# Altium schematic symbol library vga.SchLib: 197 symbols (part 1 of 3)
Pins are listed as number, name and electrical type; pins without a type are passive.

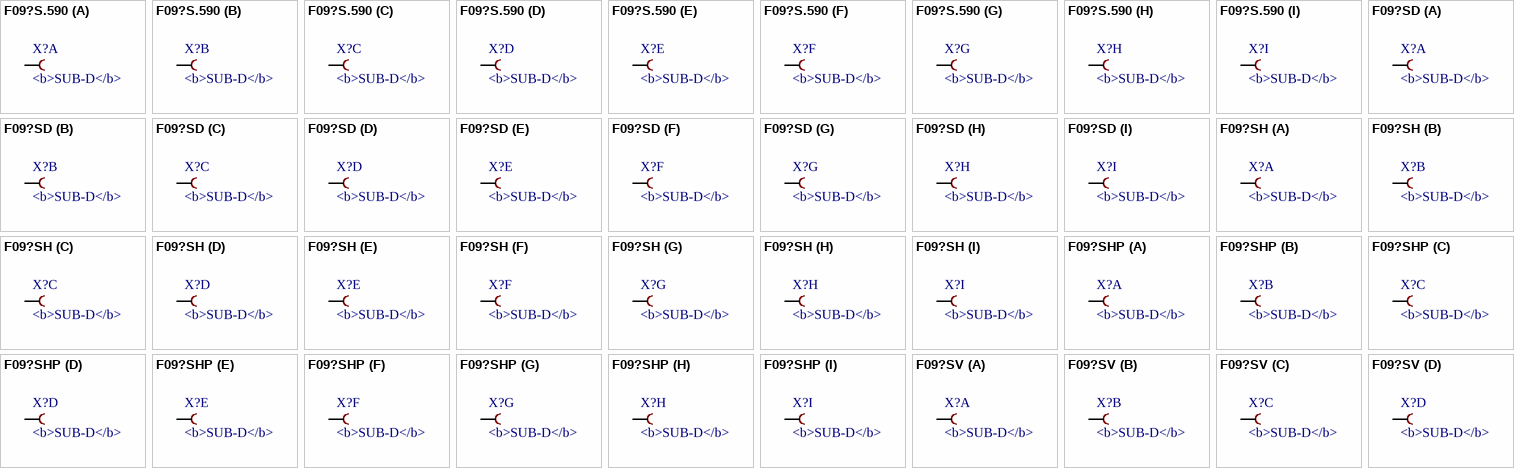
[diagram p0: symbols F09?S.590 to F09?SV]

## F09?S.590
designator X?, comment <b>SUB-D</b>
OC_FARNELL: unknown; OC_NEWARK: unknown
footprint 177-009-FEMALE
part A pins: 1 F
part B pins: 2 F
part C pins: 3 F
part D pins: 4 F
part E pins: 5 F
part F pins: 6 F
part G pins: 7 F
part H pins: 8 F
part I pins: 9 F

## F09?SD
designator X?, comment <b>SUB-D</b>
OC_FARNELL: unknown; OC_NEWARK: unknown
footprint F09D
part A pins: 1 F
part B pins: 2 F
part C pins: 3 F
part D pins: 4 F
part E pins: 5 F
part F pins: 6 F
part G pins: 7 F
part H pins: 8 F
part I pins: 9 F

## F09?SH
designator X?, comment <b>SUB-D</b>
OC_FARNELL: unknown; OC_NEWARK: unknown
footprint F09H
part A pins: 1 F
part B pins: 2 F
part C pins: 3 F
part D pins: 4 F
part E pins: 5 F
part F pins: 6 F
part G pins: 7 F
part H pins: 8 F
part I pins: 9 F

## F09?SHP
designator X?, comment <b>SUB-D</b>
OC_FARNELL: unknown; OC_NEWARK: unknown
footprint F09HP
part A pins: 1 F
part B pins: 2 F
part C pins: 3 F
part D pins: 4 F
part E pins: 5 F
part F pins: 6 F
part G pins: 7 F
part H pins: 8 F
part I pins: 9 F

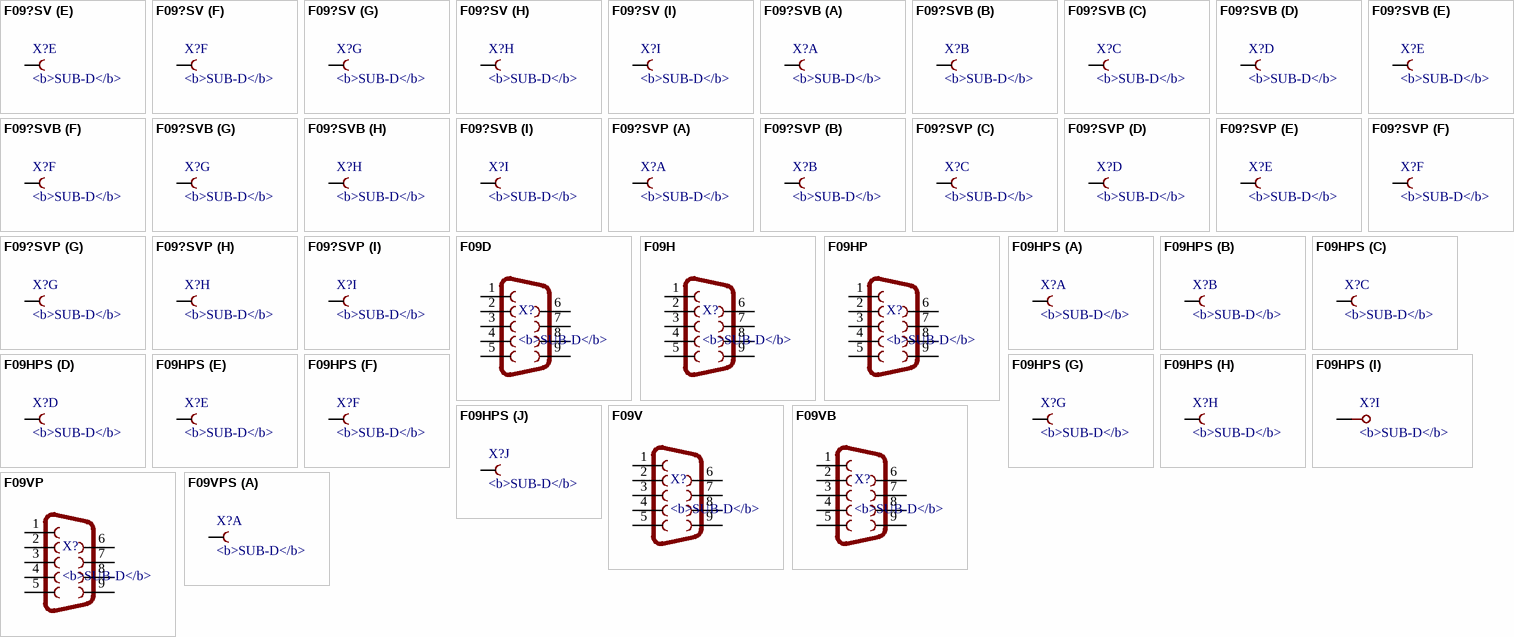
[diagram p1: symbols F09?SV to F09VPS]

## F09?SV
designator X?, comment <b>SUB-D</b>
OC_FARNELL: unknown; OC_NEWARK: unknown
footprint F09V
part A pins: 1 F
part B pins: 2 F
part C pins: 3 F
part D pins: 4 F
part E pins: 5 F
part F pins: 6 F
part G pins: 7 F
part H pins: 8 F
part I pins: 9 F

## F09?SVB
designator X?, comment <b>SUB-D</b>
OC_FARNELL: unknown; OC_NEWARK: unknown
footprint F09VB
part A pins: 1 F
part B pins: 2 F
part C pins: 3 F
part D pins: 4 F
part E pins: 5 F
part F pins: 6 F
part G pins: 7 F
part H pins: 8 F
part I pins: 9 F

## F09?SVP
designator X?, comment <b>SUB-D</b>
OC_FARNELL: unknown; OC_NEWARK: unknown
footprint F09VP
part A pins: 1 F
part B pins: 2 F
part C pins: 3 F
part D pins: 4 F
part E pins: 5 F
part F pins: 6 F
part G pins: 7 F
part H pins: 8 F
part I pins: 9 F

## F09D
designator X?, comment <b>SUB-D</b>
OC_FARNELL: unknown; OC_NEWARK: unknown
footprint F09D
pins: 1, 2, 3, 4, 5, 6, 7, 8, 9

## F09H
designator X?, comment <b>SUB-D</b>
OC_FARNELL: unknown; OC_NEWARK: unknown
footprint F09H
pins: 1, 2, 3, 4, 5, 6, 7, 8, 9

## F09HP
designator X?, comment <b>SUB-D</b>
OC_FARNELL: unknown; OC_NEWARK: unknown
footprint F09HP
pins: 1, 2, 3, 4, 5, 6, 7, 8, 9

## F09HPS
designator X?, comment <b>SUB-D</b>
OC_FARNELL: unknown; OC_NEWARK: unknown
footprint F09HP
part A pins: 2 F
part B pins: 3 F
part C pins: 4 F
part D pins: 5 F
part E pins: 6 F
part F pins: 7 F
part G pins: 8 F
part H pins: 9 F
part I pins: G1, G2
part J pins: 1 F

## F09V
designator X?, comment <b>SUB-D</b>
OC_FARNELL: unknown; OC_NEWARK: unknown
footprint F09V
pins: 1, 2, 3, 4, 5, 6, 7, 8, 9

## F09VB
designator X?, comment <b>SUB-D</b>
OC_FARNELL: unknown; OC_NEWARK: unknown
footprint F09VB
pins: 1, 2, 3, 4, 5, 6, 7, 8, 9

## F09VP
designator X?, comment <b>SUB-D</b>
OC_FARNELL: unknown; OC_NEWARK: unknown
footprint F09VP
pins: 1, 2, 3, 4, 5, 6, 7, 8, 9

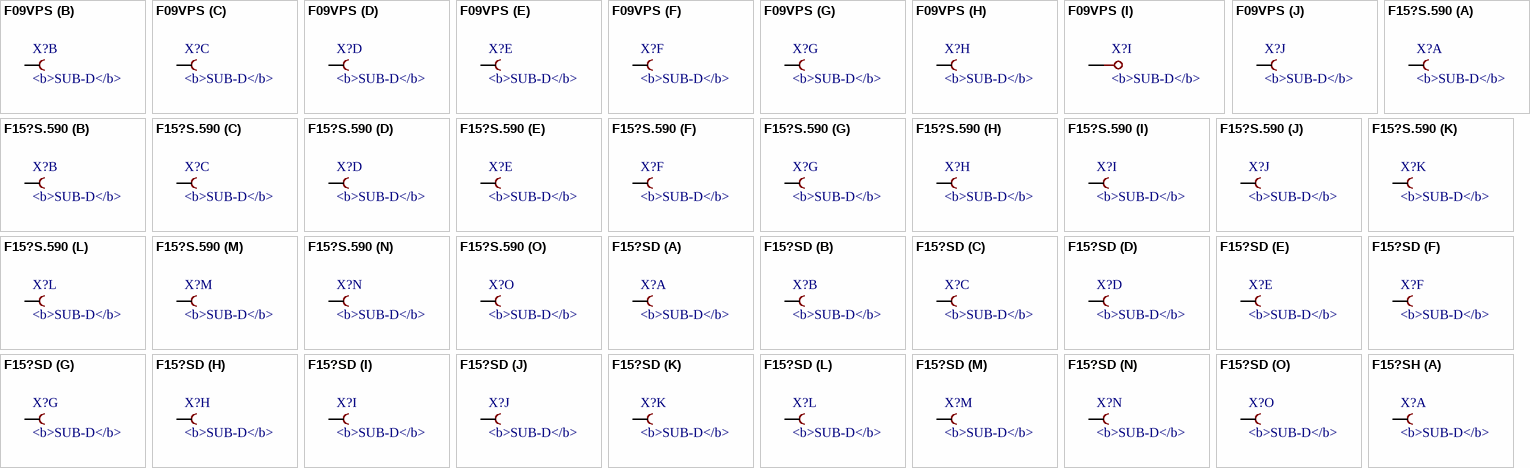
[diagram p2: symbols F09VPS to F15?SH]

## F09VPS
designator X?, comment <b>SUB-D</b>
OC_FARNELL: unknown; OC_NEWARK: unknown
footprint F09VP
part A pins: 2 F
part B pins: 3 F
part C pins: 4 F
part D pins: 5 F
part E pins: 6 F
part F pins: 7 F
part G pins: 8 F
part H pins: 9 F
part I pins: G1, G2
part J pins: 1 F

## F15?S.590
designator X?, comment <b>SUB-D</b>
OC_FARNELL: unknown; OC_NEWARK: unknown
footprint 177-015-212-FEMALE
part A pins: 1 F
part B pins: 2 F
part C pins: 3 F
part D pins: 4 F
part E pins: 5 F
part F pins: 6 F
part G pins: 7 F
part H pins: 8 F
part I pins: 9 F
part J pins: 10 F
part K pins: 11 F
part L pins: 12 F
part M pins: 13 F
part N pins: 14 F
part O pins: 15 F

## F15?SD
designator X?, comment <b>SUB-D</b>
OC_FARNELL: unknown; OC_NEWARK: unknown
footprint F15D
part A pins: 1 F
part B pins: 2 F
part C pins: 3 F
part D pins: 4 F
part E pins: 5 F
part F pins: 6 F
part G pins: 7 F
part H pins: 8 F
part I pins: 9 F
part J pins: 10 F
part K pins: 11 F
part L pins: 12 F
part M pins: 13 F
part N pins: 14 F
part O pins: 15 F

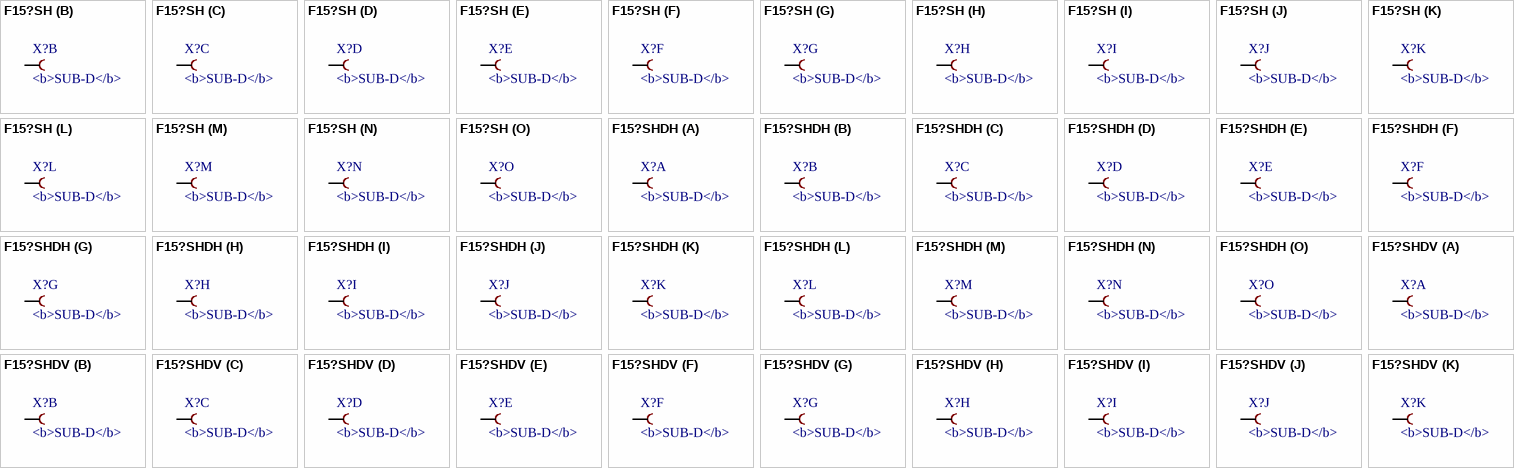
[diagram p3: symbols F15?SH to F15?SHDV]

## F15?SH
designator X?, comment <b>SUB-D</b>
OC_FARNELL: unknown; OC_NEWARK: unknown
footprint F15H
part A pins: 1 F
part B pins: 2 F
part C pins: 3 F
part D pins: 4 F
part E pins: 5 F
part F pins: 6 F
part G pins: 7 F
part H pins: 8 F
part I pins: 9 F
part J pins: 10 F
part K pins: 11 F
part L pins: 12 F
part M pins: 13 F
part N pins: 14 F
part O pins: 15 F

## F15?SHDH
designator X?, comment <b>SUB-D</b>
OC_FARNELL: unknown; OC_NEWARK: unknown
footprint HDF15H
part A pins: 1 F
part B pins: 2 F
part C pins: 3 F
part D pins: 4 F
part E pins: 5 F
part F pins: 6 F
part G pins: 7 F
part H pins: 8 F
part I pins: 9 F
part J pins: 10 F
part K pins: 11 F
part L pins: 12 F
part M pins: 13 F
part N pins: 14 F
part O pins: 15 F

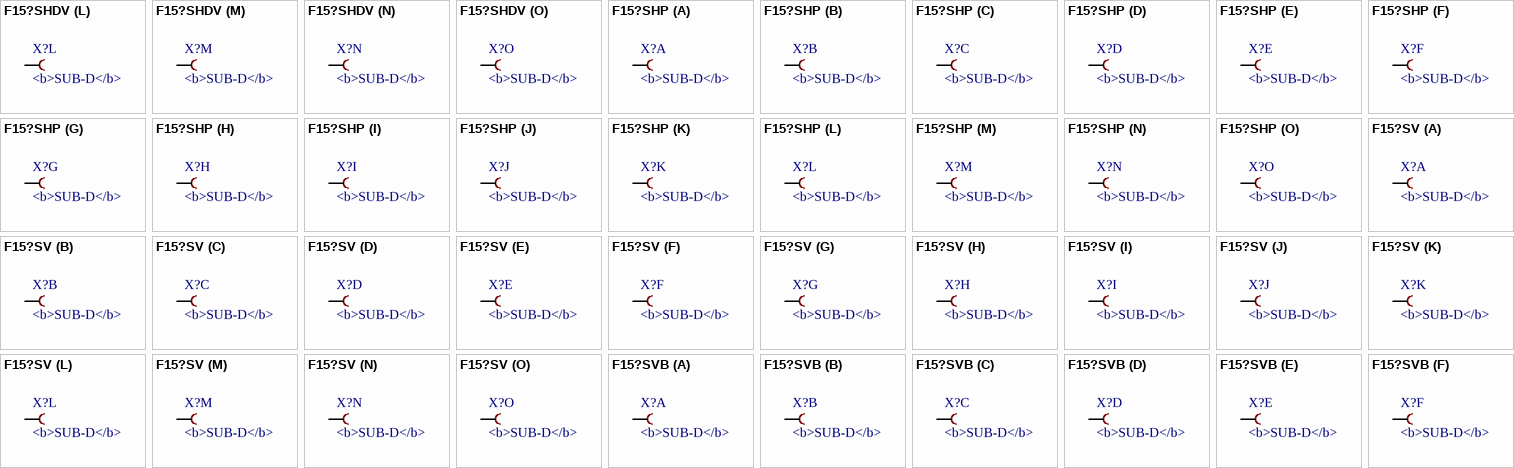
[diagram p4: symbols F15?SHDV to F15?SVB]

## F15?SHDV
designator X?, comment <b>SUB-D</b>
OC_FARNELL: unknown; OC_NEWARK: unknown
footprint HDF15V
part A pins: 1 F
part B pins: 2 F
part C pins: 3 F
part D pins: 4 F
part E pins: 5 F
part F pins: 6 F
part G pins: 7 F
part H pins: 8 F
part I pins: 9 F
part J pins: 10 F
part K pins: 11 F
part L pins: 12 F
part M pins: 13 F
part N pins: 14 F
part O pins: 15 F

## F15?SHP
designator X?, comment <b>SUB-D</b>
OC_FARNELL: unknown; OC_NEWARK: unknown
footprint F15HP
part A pins: 1 F
part B pins: 2 F
part C pins: 3 F
part D pins: 4 F
part E pins: 5 F
part F pins: 6 F
part G pins: 7 F
part H pins: 8 F
part I pins: 9 F
part J pins: 10 F
part K pins: 11 F
part L pins: 12 F
part M pins: 13 F
part N pins: 14 F
part O pins: 15 F

## F15?SV
designator X?, comment <b>SUB-D</b>
OC_FARNELL: unknown; OC_NEWARK: unknown
footprint F15V
part A pins: 1 F
part B pins: 2 F
part C pins: 3 F
part D pins: 4 F
part E pins: 5 F
part F pins: 6 F
part G pins: 7 F
part H pins: 8 F
part I pins: 9 F
part J pins: 10 F
part K pins: 11 F
part L pins: 12 F
part M pins: 13 F
part N pins: 14 F
part O pins: 15 F

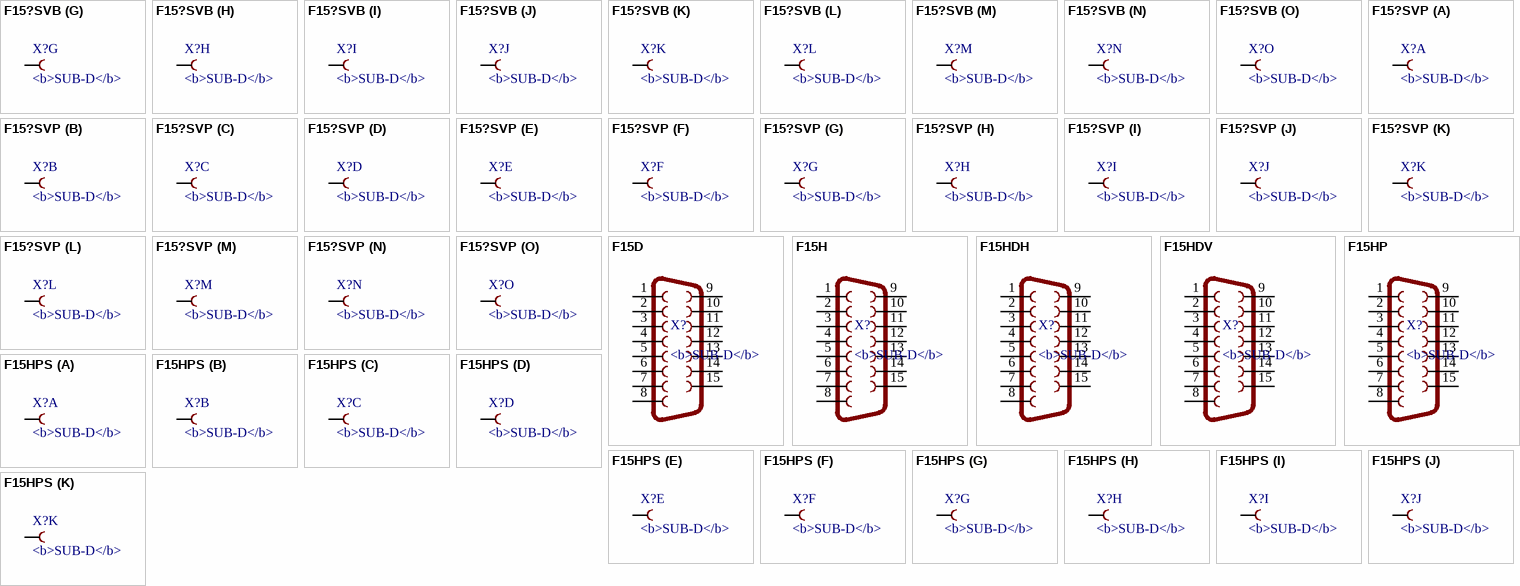
[diagram p5: symbols F15?SVB to F15HPS]

## F15?SVB
designator X?, comment <b>SUB-D</b>
OC_FARNELL: unknown; OC_NEWARK: unknown
footprint F15VB
part A pins: 1 F
part B pins: 2 F
part C pins: 3 F
part D pins: 4 F
part E pins: 5 F
part F pins: 6 F
part G pins: 7 F
part H pins: 8 F
part I pins: 9 F
part J pins: 10 F
part K pins: 11 F
part L pins: 12 F
part M pins: 13 F
part N pins: 14 F
part O pins: 15 F

## F15?SVP
designator X?, comment <b>SUB-D</b>
OC_FARNELL: unknown; OC_NEWARK: unknown
footprint F15VP
part A pins: 1 F
part B pins: 2 F
part C pins: 3 F
part D pins: 4 F
part E pins: 5 F
part F pins: 6 F
part G pins: 7 F
part H pins: 8 F
part I pins: 9 F
part J pins: 10 F
part K pins: 11 F
part L pins: 12 F
part M pins: 13 F
part N pins: 14 F
part O pins: 15 F

## F15D
designator X?, comment <b>SUB-D</b>
OC_FARNELL: unknown; OC_NEWARK: unknown
footprint F15D
pins: 1, 2, 3, 4, 5, 6, 7, 8, 9, 10, 11, 12, 13, 14, 15

## F15H
designator X?, comment <b>SUB-D</b>
OC_FARNELL: unknown; OC_NEWARK: unknown
footprint F15H
pins: 1, 2, 3, 4, 5, 6, 7, 8, 9, 10, 11, 12, 13, 14, 15

## F15HDH
designator X?, comment <b>SUB-D</b>
OC_FARNELL: unknown; OC_NEWARK: unknown
footprint HDF15H
pins: 1, 2, 3, 4, 5, 6, 7, 8, 9, 10, 11, 12, 13, 14, 15

## F15HDV
designator X?, comment <b>SUB-D</b>
OC_FARNELL: unknown; OC_NEWARK: unknown
footprint HDF15V
pins: 1, 2, 3, 4, 5, 6, 7, 8, 9, 10, 11, 12, 13, 14, 15

## F15HP
designator X?, comment <b>SUB-D</b>
OC_FARNELL: unknown; OC_NEWARK: unknown
footprint F15HP
pins: 1, 2, 3, 4, 5, 6, 7, 8, 9, 10, 11, 12, 13, 14, 15

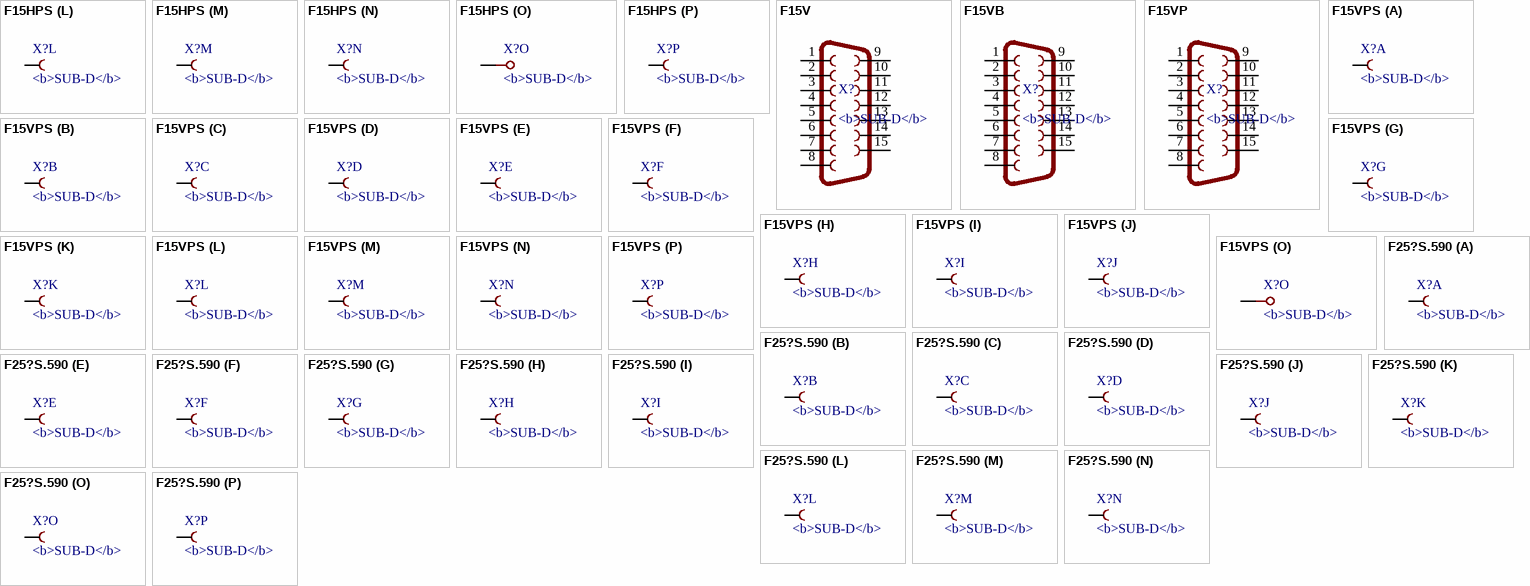
[diagram p6: symbols F15HPS to F25?S.590]

## F15HPS
designator X?, comment <b>SUB-D</b>
OC_FARNELL: unknown; OC_NEWARK: unknown
footprint F15HP
part A pins: 2 F
part B pins: 3 F
part C pins: 4 F
part D pins: 5 F
part E pins: 6 F
part F pins: 7 F
part G pins: 8 F
part H pins: 9 F
part I pins: 10 F
part J pins: 11 F
part K pins: 12 F
part L pins: 13 F
part M pins: 14 F
part N pins: 15 F
part O pins: G1, G2
part P pins: 1 F

## F15V
designator X?, comment <b>SUB-D</b>
OC_FARNELL: unknown; OC_NEWARK: unknown
footprint F15V
pins: 1, 2, 3, 4, 5, 6, 7, 8, 9, 10, 11, 12, 13, 14, 15

## F15VB
designator X?, comment <b>SUB-D</b>
OC_FARNELL: unknown; OC_NEWARK: unknown
footprint F15VB
pins: 1, 2, 3, 4, 5, 6, 7, 8, 9, 10, 11, 12, 13, 14, 15

## F15VP
designator X?, comment <b>SUB-D</b>
OC_FARNELL: unknown; OC_NEWARK: unknown
footprint F15VP
pins: 1, 2, 3, 4, 5, 6, 7, 8, 9, 10, 11, 12, 13, 14, 15

## F15VPS
designator X?, comment <b>SUB-D</b>
OC_FARNELL: unknown; OC_NEWARK: unknown
footprint F15VP
part A pins: 2 F
part B pins: 3 F
part C pins: 4 F
part D pins: 5 F
part E pins: 6 F
part F pins: 7 F
part G pins: 8 F
part H pins: 9 F
part I pins: 10 F
part J pins: 11 F
part K pins: 12 F
part L pins: 13 F
part M pins: 14 F
part N pins: 15 F
part O pins: G1, G2
part P pins: 1 F

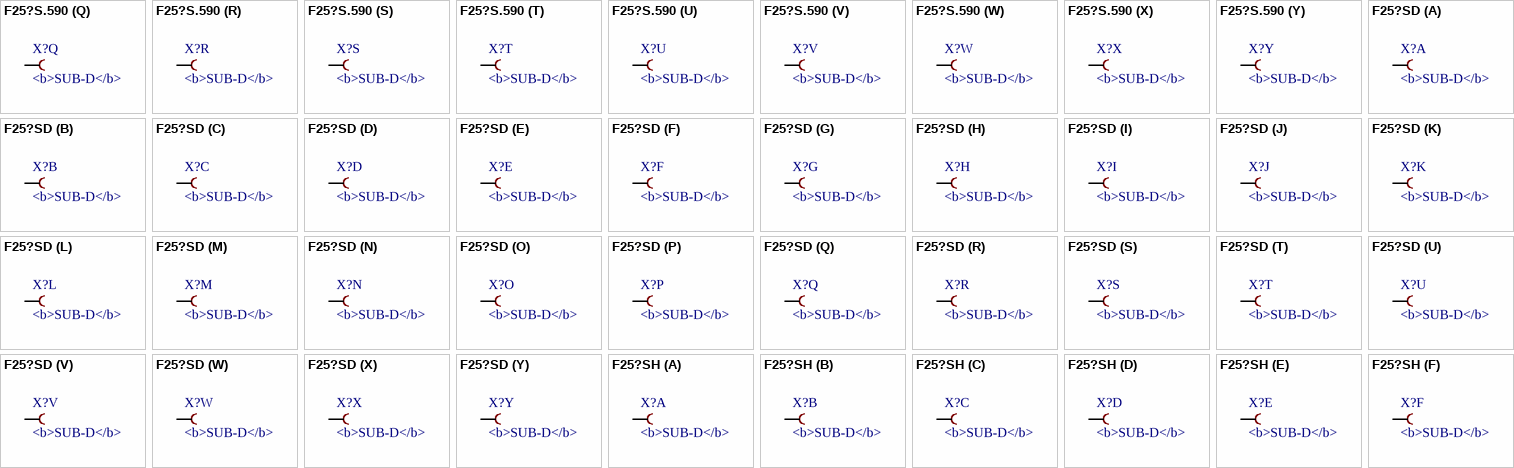
[diagram p7: symbols F25?S.590 to F25?SH]

## F25?S.590
designator X?, comment <b>SUB-D</b>
OC_FARNELL: unknown; OC_NEWARK: unknown
footprint 177-025-FEMALE
part A pins: 1 F
part B pins: 2 F
part C pins: 3 F
part D pins: 4 F
part E pins: 5 F
part F pins: 6 F
part G pins: 7 F
part H pins: 8 F
part I pins: 9 F
part J pins: 10 F
part K pins: 11 F
part L pins: 12 F
part M pins: 13 F
part N pins: 14 F
part O pins: 15 F
part P pins: 16 F
part Q pins: 17 F
part R pins: 18 F
part S pins: 19 F
part T pins: 20 F
part U pins: 21 F
part V pins: 22 F
part W pins: 23 F
part X pins: 24 F
part Y pins: 25 F

## F25?SD
designator X?, comment <b>SUB-D</b>
OC_FARNELL: unknown; OC_NEWARK: unknown
footprint F25D
part A pins: 1 F
part B pins: 2 F
part C pins: 3 F
part D pins: 4 F
part E pins: 5 F
part F pins: 6 F
part G pins: 7 F
part H pins: 8 F
part I pins: 9 F
part J pins: 10 F
part K pins: 11 F
part L pins: 12 F
part M pins: 13 F
part N pins: 14 F
part O pins: 15 F
part P pins: 16 F
part Q pins: 17 F
part R pins: 18 F
part S pins: 19 F
part T pins: 20 F
part U pins: 21 F
part V pins: 22 F
part W pins: 23 F
part X pins: 24 F
part Y pins: 25 F

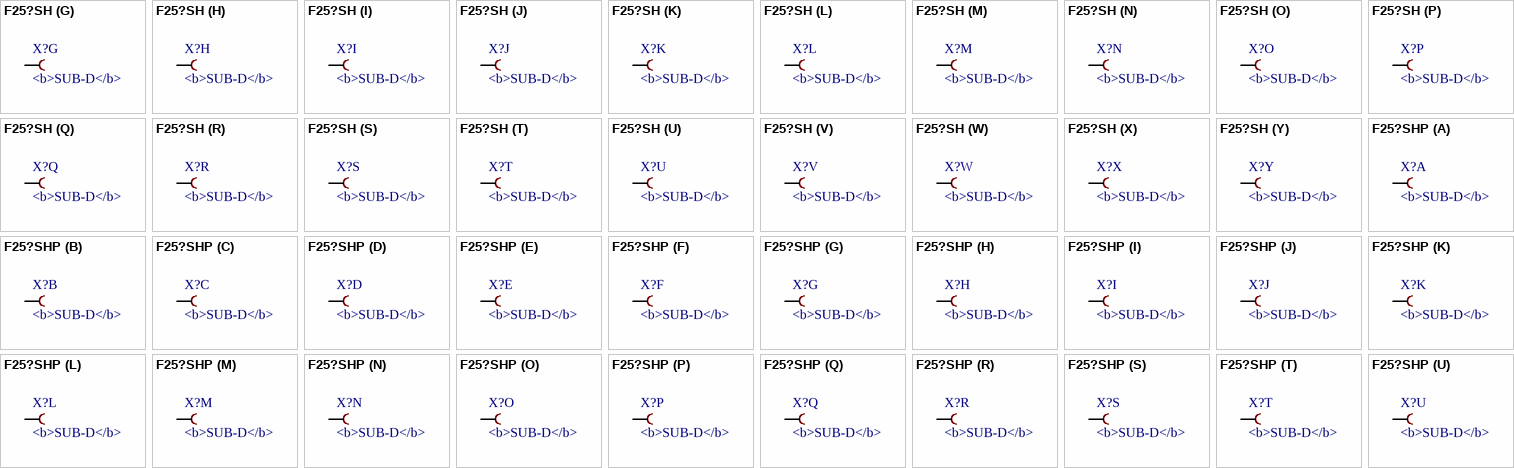
[diagram p8: symbols F25?SH to F25?SHP]

## F25?SH
designator X?, comment <b>SUB-D</b>
OC_FARNELL: unknown; OC_NEWARK: unknown
footprint F25H
part A pins: 1 F
part B pins: 2 F
part C pins: 3 F
part D pins: 4 F
part E pins: 5 F
part F pins: 6 F
part G pins: 7 F
part H pins: 8 F
part I pins: 9 F
part J pins: 10 F
part K pins: 11 F
part L pins: 12 F
part M pins: 13 F
part N pins: 14 F
part O pins: 15 F
part P pins: 16 F
part Q pins: 17 F
part R pins: 18 F
part S pins: 19 F
part T pins: 20 F
part U pins: 21 F
part V pins: 22 F
part W pins: 23 F
part X pins: 24 F
part Y pins: 25 F

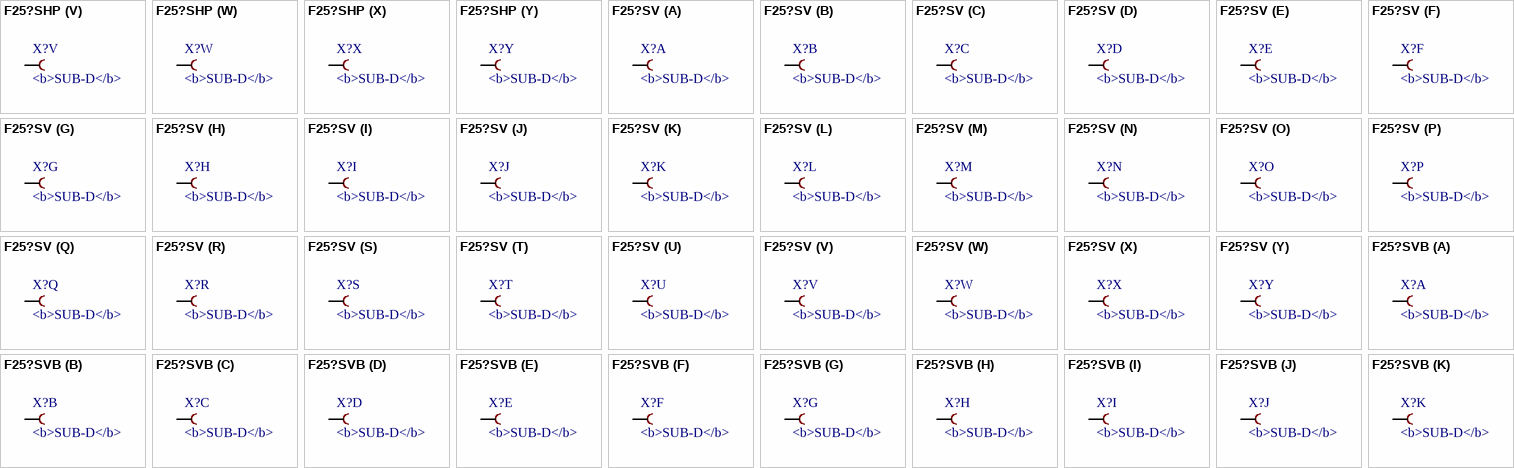
[diagram p9: symbols F25?SHP to F25?SVB]

## F25?SHP
designator X?, comment <b>SUB-D</b>
OC_FARNELL: unknown; OC_NEWARK: unknown
footprint F25HP
part A pins: 1 F
part B pins: 2 F
part C pins: 3 F
part D pins: 4 F
part E pins: 5 F
part F pins: 6 F
part G pins: 7 F
part H pins: 8 F
part I pins: 9 F
part J pins: 10 F
part K pins: 11 F
part L pins: 12 F
part M pins: 13 F
part N pins: 14 F
part O pins: 15 F
part P pins: 16 F
part Q pins: 17 F
part R pins: 18 F
part S pins: 19 F
part T pins: 20 F
part U pins: 21 F
part V pins: 22 F
part W pins: 23 F
part X pins: 24 F
part Y pins: 25 F

## F25?SV
designator X?, comment <b>SUB-D</b>
OC_FARNELL: unknown; OC_NEWARK: unknown
footprint F25V
part A pins: 1 F
part B pins: 2 F
part C pins: 3 F
part D pins: 4 F
part E pins: 5 F
part F pins: 6 F
part G pins: 7 F
part H pins: 8 F
part I pins: 9 F
part J pins: 10 F
part K pins: 11 F
part L pins: 12 F
part M pins: 13 F
part N pins: 14 F
part O pins: 15 F
part P pins: 16 F
part Q pins: 17 F
part R pins: 18 F
part S pins: 19 F
part T pins: 20 F
part U pins: 21 F
part V pins: 22 F
part W pins: 23 F
part X pins: 24 F
part Y pins: 25 F

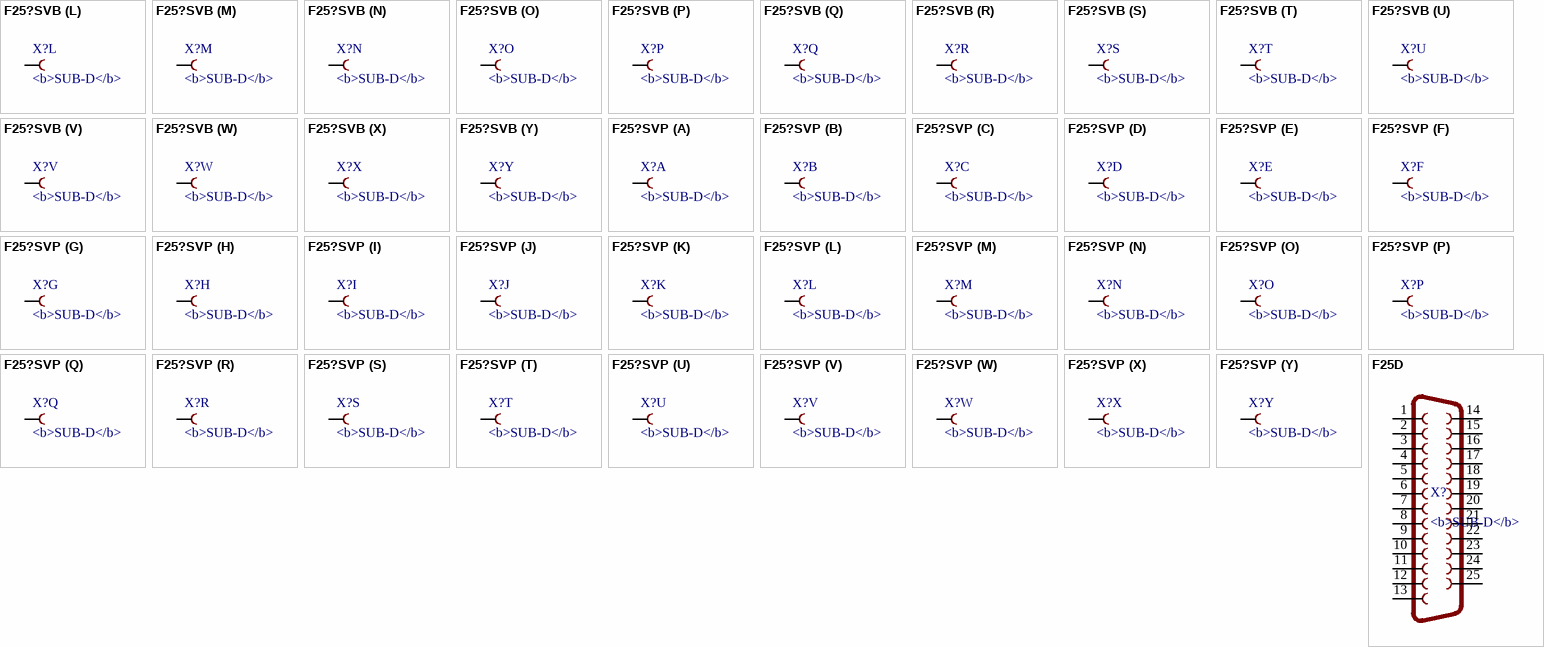
[diagram p10: symbols F25?SVB to F25D]

## F25?SVB
designator X?, comment <b>SUB-D</b>
OC_FARNELL: unknown; OC_NEWARK: unknown
footprint F25VB
part A pins: 1 F
part B pins: 2 F
part C pins: 3 F
part D pins: 4 F
part E pins: 5 F
part F pins: 6 F
part G pins: 7 F
part H pins: 8 F
part I pins: 9 F
part J pins: 10 F
part K pins: 11 F
part L pins: 12 F
part M pins: 13 F
part N pins: 14 F
part O pins: 15 F
part P pins: 16 F
part Q pins: 17 F
part R pins: 18 F
part S pins: 19 F
part T pins: 20 F
part U pins: 21 F
part V pins: 22 F
part W pins: 23 F
part X pins: 24 F
part Y pins: 25 F

## F25?SVP
designator X?, comment <b>SUB-D</b>
OC_FARNELL: unknown; OC_NEWARK: unknown
footprint F25VP
part A pins: 1 F
part B pins: 2 F
part C pins: 3 F
part D pins: 4 F
part E pins: 5 F
part F pins: 6 F
part G pins: 7 F
part H pins: 8 F
part I pins: 9 F
part J pins: 10 F
part K pins: 11 F
part L pins: 12 F
part M pins: 13 F
part N pins: 14 F
part O pins: 15 F
part P pins: 16 F
part Q pins: 17 F
part R pins: 18 F
part S pins: 19 F
part T pins: 20 F
part U pins: 21 F
part V pins: 22 F
part W pins: 23 F
part X pins: 24 F
part Y pins: 25 F

## F25D
designator X?, comment <b>SUB-D</b>
OC_FARNELL: unknown; OC_NEWARK: unknown
footprint F25D
pins: 1, 2, 3, 4, 5, 6, 7, 8, 9, 10, 11, 12, 13, 14, 15, 16, 17, 18, 19, 20, 21, 22, 23, 24, 25

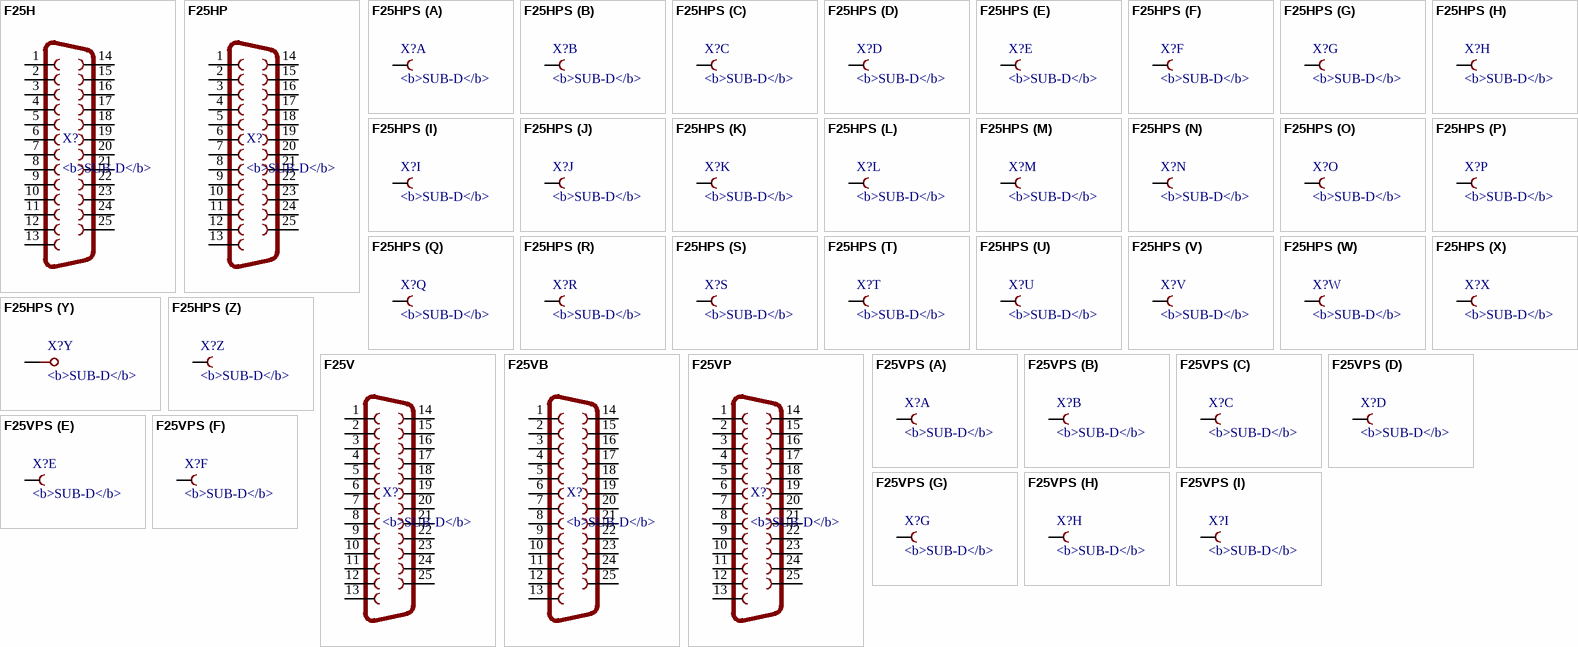
[diagram p11: symbols F25H to F25VPS]

## F25H
designator X?, comment <b>SUB-D</b>
OC_FARNELL: unknown; OC_NEWARK: unknown
footprint F25H
pins: 1, 2, 3, 4, 5, 6, 7, 8, 9, 10, 11, 12, 13, 14, 15, 16, 17, 18, 19, 20, 21, 22, 23, 24, 25

## F25HP
designator X?, comment <b>SUB-D</b>
OC_FARNELL: unknown; OC_NEWARK: unknown
footprint F25HP
pins: 1, 2, 3, 4, 5, 6, 7, 8, 9, 10, 11, 12, 13, 14, 15, 16, 17, 18, 19, 20, 21, 22, 23, 24, 25

## F25HPS
designator X?, comment <b>SUB-D</b>
OC_FARNELL: unknown; OC_NEWARK: unknown
footprint F25HP
part A pins: 2 F
part B pins: 3 F
part C pins: 4 F
part D pins: 5 F
part E pins: 6 F
part F pins: 7 F
part G pins: 8 F
part H pins: 9 F
part I pins: 10 F
part J pins: 11 F
part K pins: 12 F
part L pins: 13 F
part M pins: 14 F
part N pins: 15 F
part O pins: 16 F
part P pins: 17 F
part Q pins: 18 F
part R pins: 19 F
part S pins: 20 F
part T pins: 21 F
part U pins: 22 F
part V pins: 23 F
part W pins: 24 F
part X pins: 25 F
part Y pins: G1, G2
part Z pins: 1 F

## F25V
designator X?, comment <b>SUB-D</b>
OC_FARNELL: unknown; OC_NEWARK: unknown
footprint F25V
pins: 1, 2, 3, 4, 5, 6, 7, 8, 9, 10, 11, 12, 13, 14, 15, 16, 17, 18, 19, 20, 21, 22, 23, 24, 25

## F25VB
designator X?, comment <b>SUB-D</b>
OC_FARNELL: unknown; OC_NEWARK: unknown
footprint F25VB
pins: 1, 2, 3, 4, 5, 6, 7, 8, 9, 10, 11, 12, 13, 14, 15, 16, 17, 18, 19, 20, 21, 22, 23, 24, 25

## F25VP
designator X?, comment <b>SUB-D</b>
OC_FARNELL: unknown; OC_NEWARK: unknown
footprint F25VP
pins: 1, 2, 3, 4, 5, 6, 7, 8, 9, 10, 11, 12, 13, 14, 15, 16, 17, 18, 19, 20, 21, 22, 23, 24, 25

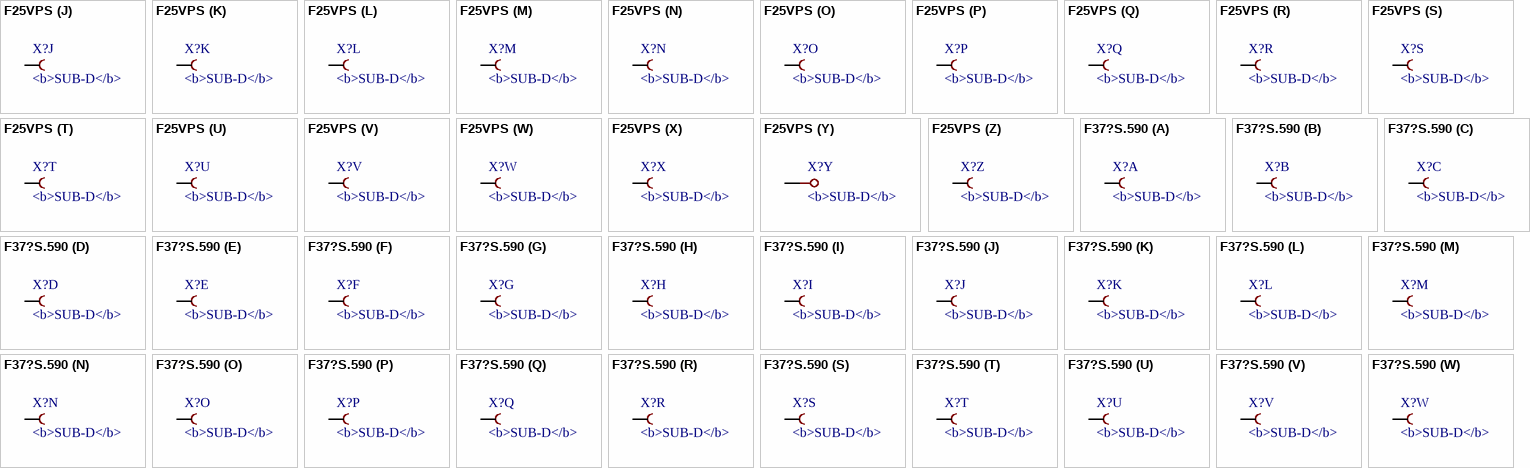
[diagram p12: symbols F25VPS to F37?S.590]

## F25VPS
designator X?, comment <b>SUB-D</b>
OC_FARNELL: unknown; OC_NEWARK: unknown
footprint F25VP
part A pins: 2 F
part B pins: 3 F
part C pins: 4 F
part D pins: 5 F
part E pins: 6 F
part F pins: 7 F
part G pins: 8 F
part H pins: 9 F
part I pins: 10 F
part J pins: 11 F
part K pins: 12 F
part L pins: 13 F
part M pins: 14 F
part N pins: 15 F
part O pins: 16 F
part P pins: 17 F
part Q pins: 18 F
part R pins: 19 F
part S pins: 20 F
part T pins: 21 F
part U pins: 22 F
part V pins: 23 F
part W pins: 24 F
part X pins: 25 F
part Y pins: G1, G2
part Z pins: 1 F

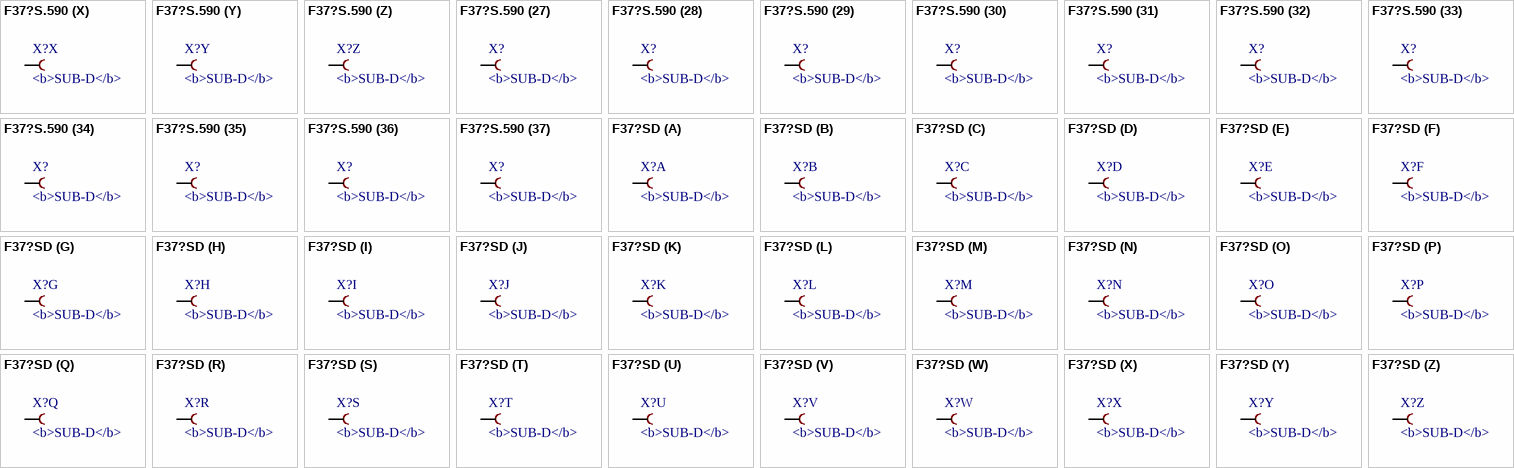
[diagram p13: symbols F37?S.590 to F37?SD]

## F37?S.590
designator X?, comment <b>SUB-D</b>
OC_FARNELL: unknown; OC_NEWARK: unknown
footprint 177-037-FEMALE
part A pins: 1 F
part B pins: 2 F
part C pins: 3 F
part D pins: 4 F
part E pins: 5 F
part F pins: 6 F
part G pins: 7 F
part H pins: 8 F
part I pins: 9 F
part J pins: 10 F
part K pins: 11 F
part L pins: 12 F
part M pins: 13 F
part N pins: 14 F
part O pins: 15 F
part P pins: 16 F
part Q pins: 17 F
part R pins: 18 F
part S pins: 19 F
part T pins: 20 F
part U pins: 21 F
part V pins: 22 F
part W pins: 23 F
part X pins: 24 F
part Y pins: 25 F
part Z pins: 26 F
part 27 pins: 27 F
part 28 pins: 28 F
part 29 pins: 29 F
part 30 pins: 30 F
part 31 pins: 31 F
part 32 pins: 32 F
part 33 pins: 33 F
part 34 pins: 34 F
part 35 pins: 35 F
part 36 pins: 36 F
part 37 pins: 37 F

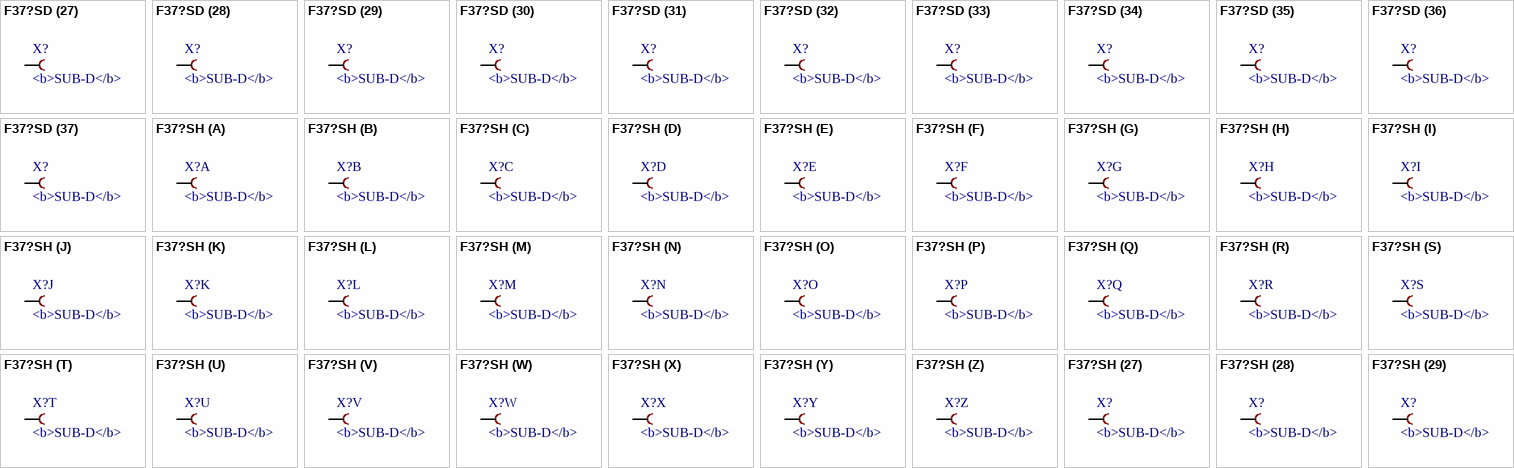
[diagram p14: symbols F37?SD to F37?SH]

## F37?SD
designator X?, comment <b>SUB-D</b>
OC_FARNELL: unknown; OC_NEWARK: unknown
footprint F37D
part A pins: 1 F
part B pins: 2 F
part C pins: 3 F
part D pins: 4 F
part E pins: 5 F
part F pins: 6 F
part G pins: 7 F
part H pins: 8 F
part I pins: 9 F
part J pins: 10 F
part K pins: 11 F
part L pins: 12 F
part M pins: 13 F
part N pins: 14 F
part O pins: 15 F
part P pins: 16 F
part Q pins: 17 F
part R pins: 18 F
part S pins: 19 F
part T pins: 20 F
part U pins: 21 F
part V pins: 22 F
part W pins: 23 F
part X pins: 24 F
part Y pins: 25 F
part Z pins: 26 F
part 27 pins: 27 F
part 28 pins: 28 F
part 29 pins: 29 F
part 30 pins: 30 F
part 31 pins: 31 F
part 32 pins: 32 F
part 33 pins: 33 F
part 34 pins: 34 F
part 35 pins: 35 F
part 36 pins: 36 F
part 37 pins: 37 F

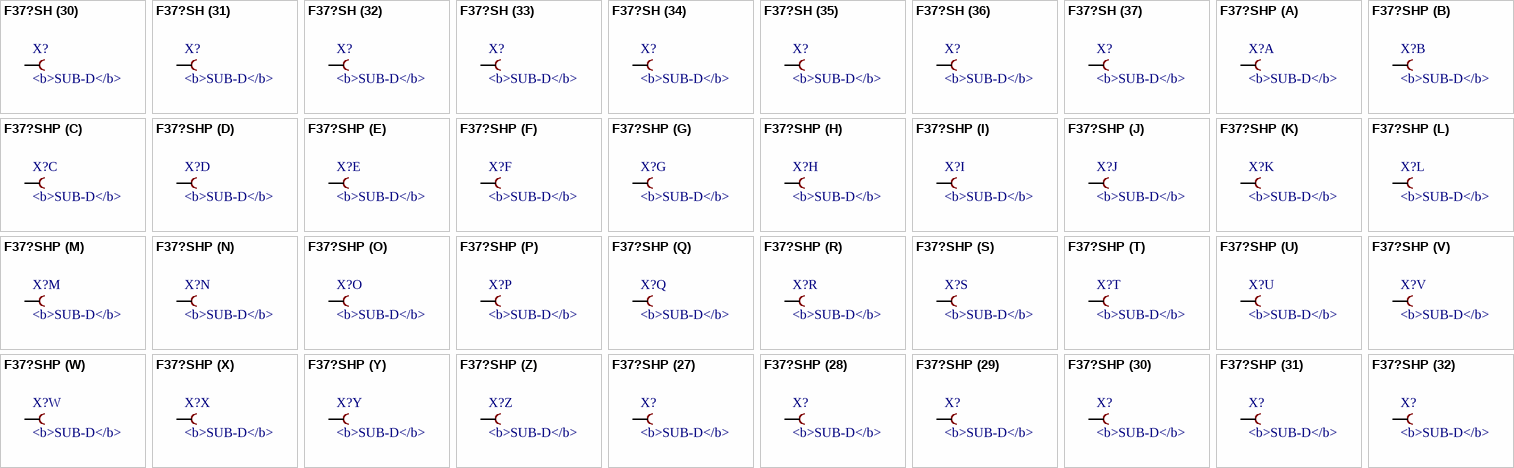
[diagram p15: symbols F37?SH to F37?SHP]

## F37?SH
designator X?, comment <b>SUB-D</b>
OC_FARNELL: unknown; OC_NEWARK: unknown
footprint F37H
part A pins: 1 F
part B pins: 2 F
part C pins: 3 F
part D pins: 4 F
part E pins: 5 F
part F pins: 6 F
part G pins: 7 F
part H pins: 8 F
part I pins: 9 F
part J pins: 10 F
part K pins: 11 F
part L pins: 12 F
part M pins: 13 F
part N pins: 14 F
part O pins: 15 F
part P pins: 16 F
part Q pins: 17 F
part R pins: 18 F
part S pins: 19 F
part T pins: 20 F
part U pins: 21 F
part V pins: 22 F
part W pins: 23 F
part X pins: 24 F
part Y pins: 25 F
part Z pins: 26 F
part 27 pins: 27 F
part 28 pins: 28 F
part 29 pins: 29 F
part 30 pins: 30 F
part 31 pins: 31 F
part 32 pins: 32 F
part 33 pins: 33 F
part 34 pins: 34 F
part 35 pins: 35 F
part 36 pins: 36 F
part 37 pins: 37 F

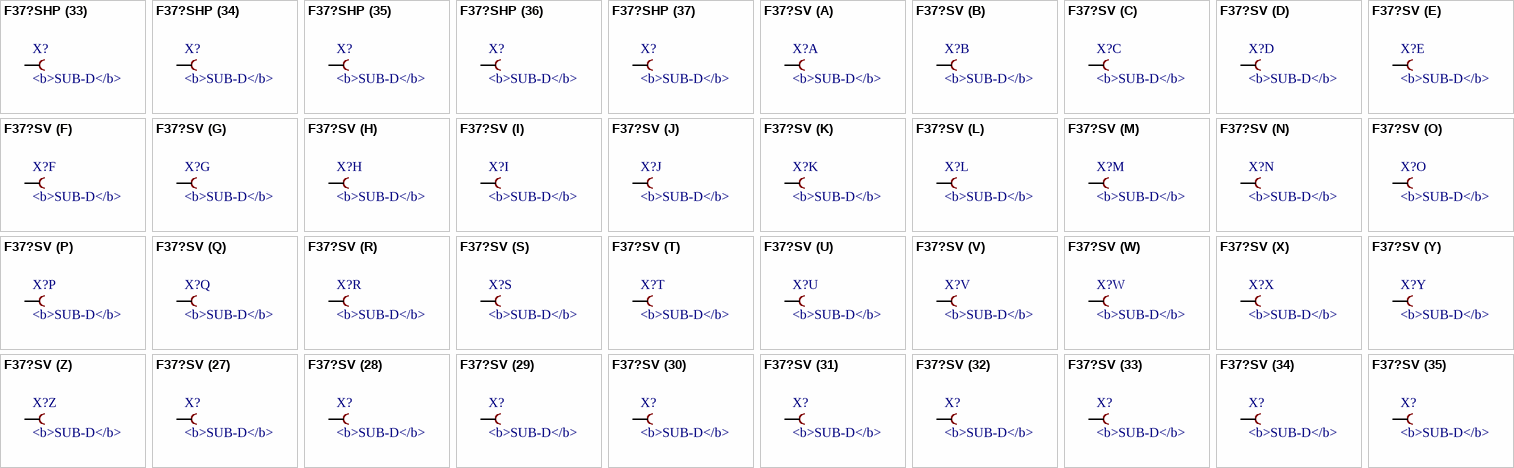
[diagram p16: symbols F37?SHP to F37?SV]

## F37?SHP
designator X?, comment <b>SUB-D</b>
OC_FARNELL: unknown; OC_NEWARK: unknown
footprint F37HP
part A pins: 1 F
part B pins: 2 F
part C pins: 3 F
part D pins: 4 F
part E pins: 5 F
part F pins: 6 F
part G pins: 7 F
part H pins: 8 F
part I pins: 9 F
part J pins: 10 F
part K pins: 11 F
part L pins: 12 F
part M pins: 13 F
part N pins: 14 F
part O pins: 15 F
part P pins: 16 F
part Q pins: 17 F
part R pins: 18 F
part S pins: 19 F
part T pins: 20 F
part U pins: 21 F
part V pins: 22 F
part W pins: 23 F
part X pins: 24 F
part Y pins: 25 F
part Z pins: 26 F
part 27 pins: 27 F
part 28 pins: 28 F
part 29 pins: 29 F
part 30 pins: 30 F
part 31 pins: 31 F
part 32 pins: 32 F
part 33 pins: 33 F
part 34 pins: 34 F
part 35 pins: 35 F
part 36 pins: 36 F
part 37 pins: 37 F

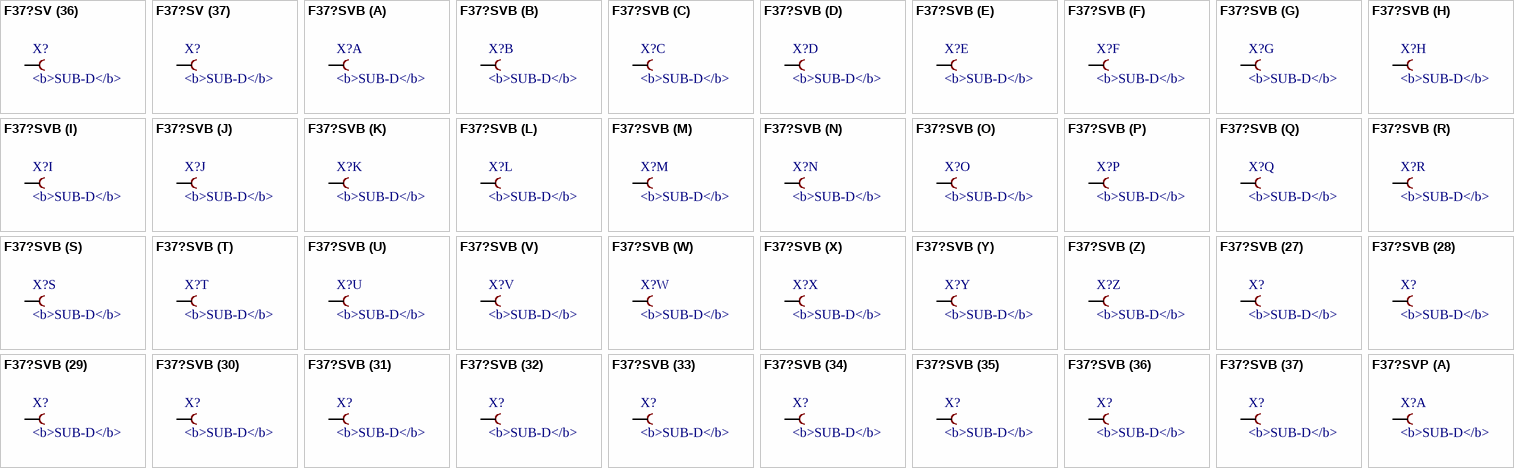
[diagram p17: symbols F37?SV to F37?SVP]

## F37?SV
designator X?, comment <b>SUB-D</b>
OC_FARNELL: unknown; OC_NEWARK: unknown
footprint F37V
part A pins: 1 F
part B pins: 2 F
part C pins: 3 F
part D pins: 4 F
part E pins: 5 F
part F pins: 6 F
part G pins: 7 F
part H pins: 8 F
part I pins: 9 F
part J pins: 10 F
part K pins: 11 F
part L pins: 12 F
part M pins: 13 F
part N pins: 14 F
part O pins: 15 F
part P pins: 16 F
part Q pins: 17 F
part R pins: 18 F
part S pins: 19 F
part T pins: 20 F
part U pins: 21 F
part V pins: 22 F
part W pins: 23 F
part X pins: 24 F
part Y pins: 25 F
part Z pins: 26 F
part 27 pins: 27 F
part 28 pins: 28 F
part 29 pins: 29 F
part 30 pins: 30 F
part 31 pins: 31 F
part 32 pins: 32 F
part 33 pins: 33 F
part 34 pins: 34 F
part 35 pins: 35 F
part 36 pins: 36 F
part 37 pins: 37 F

## F37?SVB
designator X?, comment <b>SUB-D</b>
OC_FARNELL: unknown; OC_NEWARK: unknown
footprint F37VB
part A pins: 1 F
part B pins: 2 F
part C pins: 3 F
part D pins: 4 F
part E pins: 5 F
part F pins: 6 F
part G pins: 7 F
part H pins: 8 F
part I pins: 9 F
part J pins: 10 F
part K pins: 11 F
part L pins: 12 F
part M pins: 13 F
part N pins: 14 F
part O pins: 15 F
part P pins: 16 F
part Q pins: 17 F
part R pins: 18 F
part S pins: 19 F
part T pins: 20 F
part U pins: 21 F
part V pins: 22 F
part W pins: 23 F
part X pins: 24 F
part Y pins: 25 F
part Z pins: 26 F
part 27 pins: 27 F
part 28 pins: 28 F
part 29 pins: 29 F
part 30 pins: 30 F
part 31 pins: 31 F
part 32 pins: 32 F
part 33 pins: 33 F
part 34 pins: 34 F
part 35 pins: 35 F
part 36 pins: 36 F
part 37 pins: 37 F

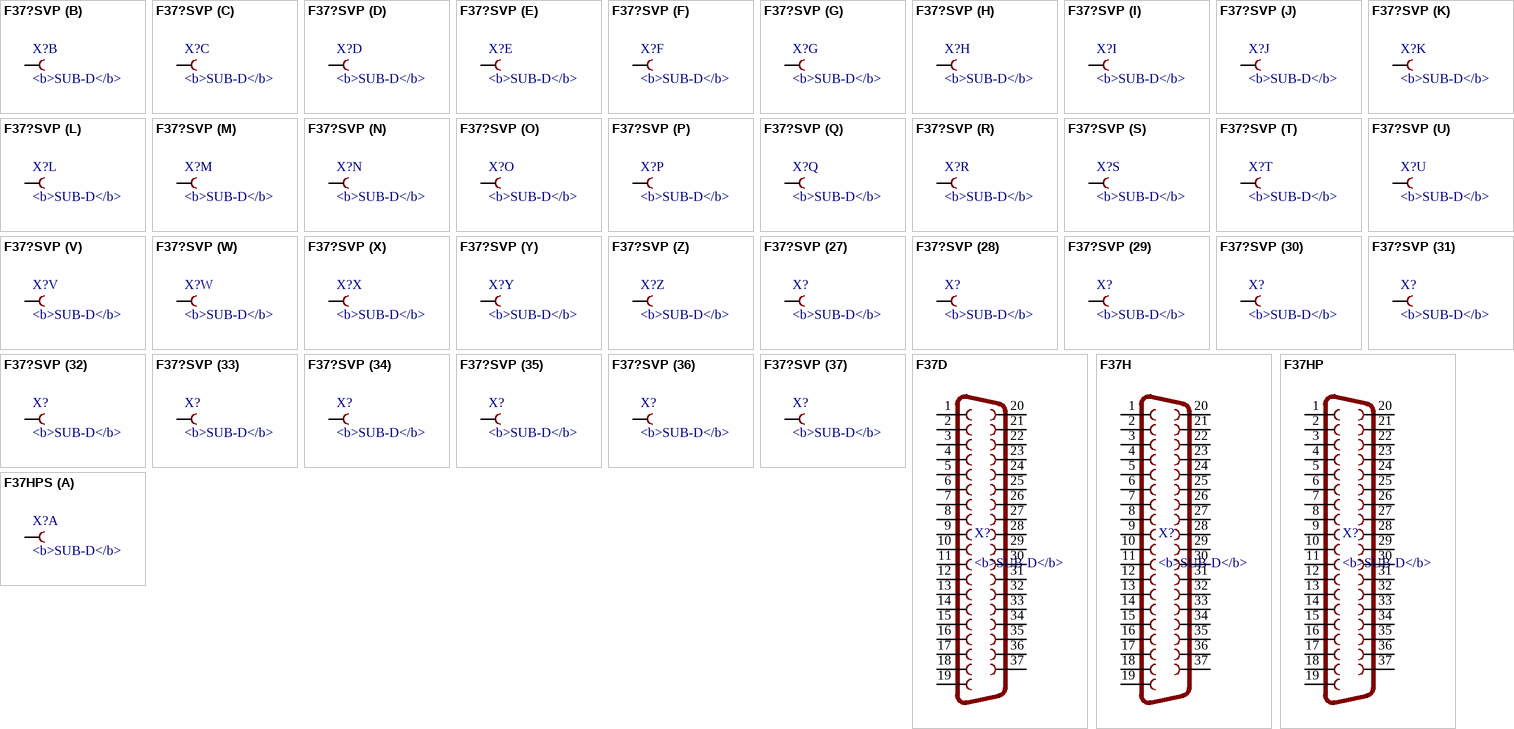
[diagram p18: symbols F37?SVP to F37HPS]

## F37?SVP
designator X?, comment <b>SUB-D</b>
OC_FARNELL: unknown; OC_NEWARK: unknown
footprint F37VP
part A pins: 1 F
part B pins: 2 F
part C pins: 3 F
part D pins: 4 F
part E pins: 5 F
part F pins: 6 F
part G pins: 7 F
part H pins: 8 F
part I pins: 9 F
part J pins: 10 F
part K pins: 11 F
part L pins: 12 F
part M pins: 13 F
part N pins: 14 F
part O pins: 15 F
part P pins: 16 F
part Q pins: 17 F
part R pins: 18 F
part S pins: 19 F
part T pins: 20 F
part U pins: 21 F
part V pins: 22 F
part W pins: 23 F
part X pins: 24 F
part Y pins: 25 F
part Z pins: 26 F
part 27 pins: 27 F
part 28 pins: 28 F
part 29 pins: 29 F
part 30 pins: 30 F
part 31 pins: 31 F
part 32 pins: 32 F
part 33 pins: 33 F
part 34 pins: 34 F
part 35 pins: 35 F
part 36 pins: 36 F
part 37 pins: 37 F

## F37D
designator X?, comment <b>SUB-D</b>
OC_FARNELL: unknown; OC_NEWARK: unknown
footprint F37D
pins: 1, 2, 3, 4, 5, 6, 7, 8, 9, 10, 11, 12, 13, 14, 15, 16, 17, 18, 19, 20, 21, 22, 23, 24, 25, 26, 27, 28, 29, 30, 31, 32, 33, 34, 35, 36, 37

## F37H
designator X?, comment <b>SUB-D</b>
OC_FARNELL: unknown; OC_NEWARK: unknown
footprint F37H
pins: 1, 2, 3, 4, 5, 6, 7, 8, 9, 10, 11, 12, 13, 14, 15, 16, 17, 18, 19, 20, 21, 22, 23, 24, 25, 26, 27, 28, 29, 30, 31, 32, 33, 34, 35, 36, 37

## F37HP
designator X?, comment <b>SUB-D</b>
OC_FARNELL: unknown; OC_NEWARK: unknown
footprint F37HP
pins: 1, 2, 3, 4, 5, 6, 7, 8, 9, 10, 11, 12, 13, 14, 15, 16, 17, 18, 19, 20, 21, 22, 23, 24, 25, 26, 27, 28, 29, 30, 31, 32, 33, 34, 35, 36, 37

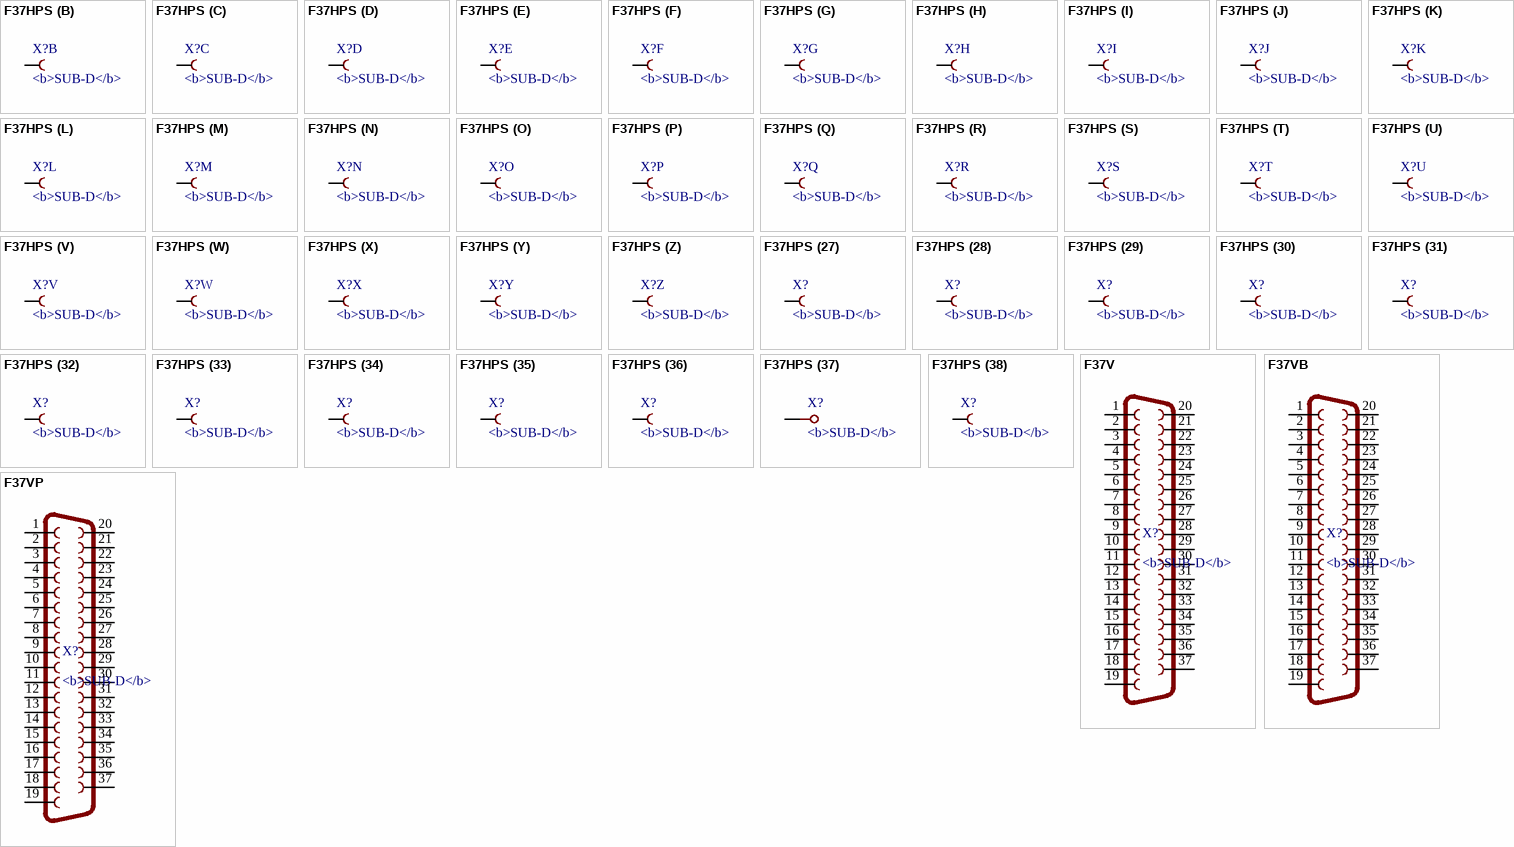
[diagram p19: symbols F37HPS to F37VP]

## F37HPS
designator X?, comment <b>SUB-D</b>
OC_FARNELL: unknown; OC_NEWARK: unknown
footprint F37HP
part A pins: 2 F
part B pins: 3 F
part C pins: 4 F
part D pins: 5 F
part E pins: 6 F
part F pins: 7 F
part G pins: 8 F
part H pins: 9 F
part I pins: 10 F
part J pins: 11 F
part K pins: 12 F
part L pins: 13 F
part M pins: 14 F
part N pins: 15 F
part O pins: 16 F
part P pins: 17 F
part Q pins: 18 F
part R pins: 19 F
part S pins: 20 F
part T pins: 21 F
part U pins: 22 F
part V pins: 23 F
part W pins: 24 F
part X pins: 25 F
part Y pins: 26 F
part Z pins: 27 F
part 27 pins: 28 F
part 28 pins: 29 F
part 29 pins: 30 F
part 30 pins: 31 F
part 31 pins: 32 F
part 32 pins: 33 F
part 33 pins: 34 F
part 34 pins: 35 F
part 35 pins: 36 F
part 36 pins: 37 F
part 37 pins: G1, G2
part 38 pins: 1 F

## F37V
designator X?, comment <b>SUB-D</b>
OC_FARNELL: unknown; OC_NEWARK: unknown
footprint F37V
pins: 1, 2, 3, 4, 5, 6, 7, 8, 9, 10, 11, 12, 13, 14, 15, 16, 17, 18, 19, 20, 21, 22, 23, 24, 25, 26, 27, 28, 29, 30, 31, 32, 33, 34, 35, 36, 37

## F37VB
designator X?, comment <b>SUB-D</b>
OC_FARNELL: unknown; OC_NEWARK: unknown
footprint F37VB
pins: 1, 2, 3, 4, 5, 6, 7, 8, 9, 10, 11, 12, 13, 14, 15, 16, 17, 18, 19, 20, 21, 22, 23, 24, 25, 26, 27, 28, 29, 30, 31, 32, 33, 34, 35, 36, 37

## F37VP
designator X?, comment <b>SUB-D</b>
OC_FARNELL: unknown; OC_NEWARK: unknown
footprint F37VP
pins: 1, 2, 3, 4, 5, 6, 7, 8, 9, 10, 11, 12, 13, 14, 15, 16, 17, 18, 19, 20, 21, 22, 23, 24, 25, 26, 27, 28, 29, 30, 31, 32, 33, 34, 35, 36, 37

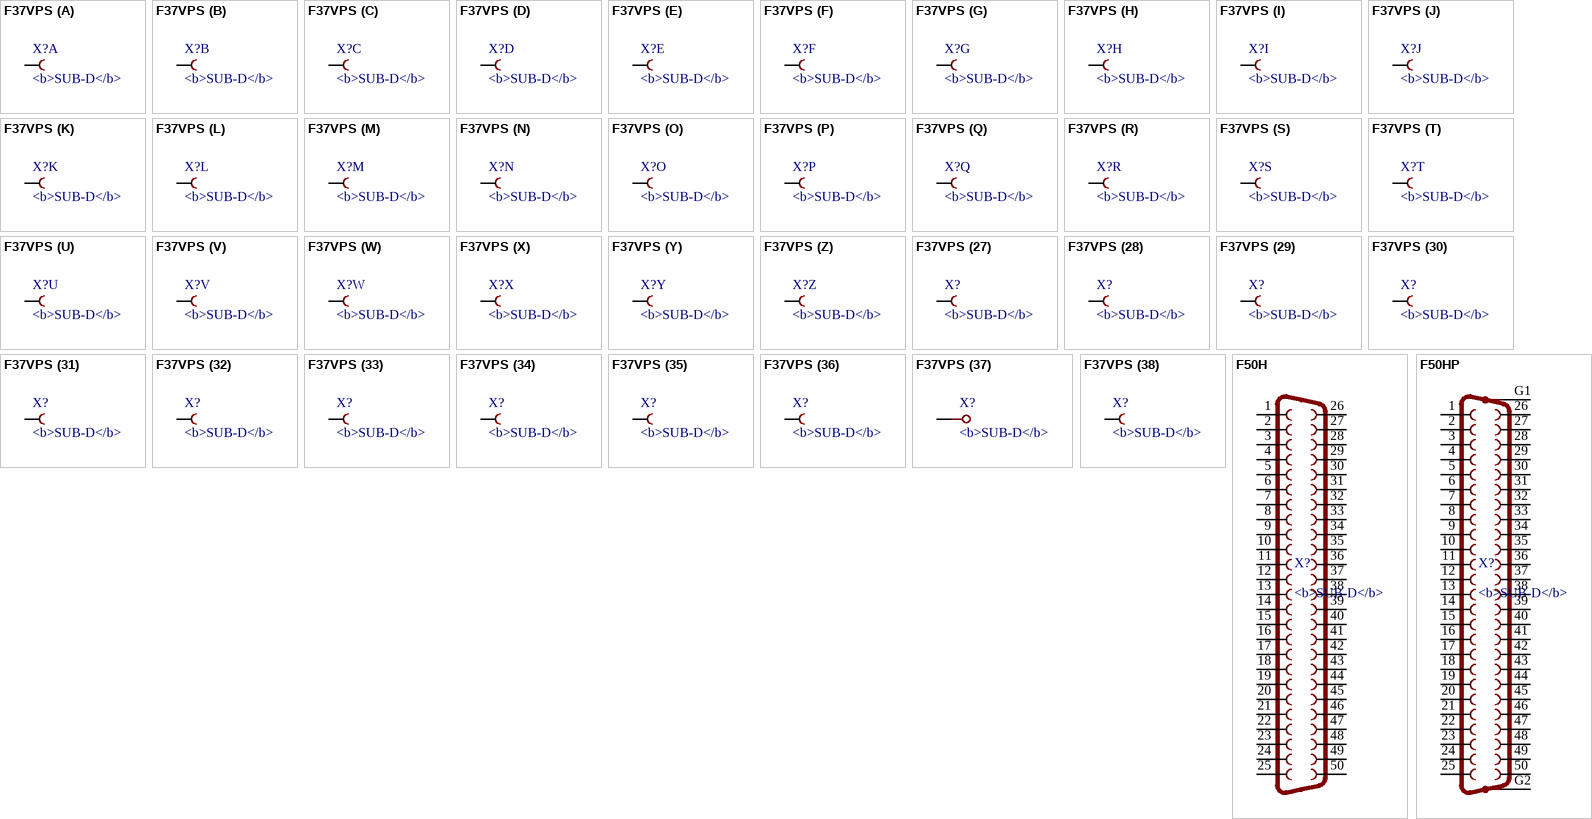
[diagram p20: symbols F37VPS to F50HP]

## F37VPS
designator X?, comment <b>SUB-D</b>
OC_FARNELL: unknown; OC_NEWARK: unknown
footprint F37VP
part A pins: 2 F
part B pins: 3 F
part C pins: 4 F
part D pins: 5 F
part E pins: 6 F
part F pins: 7 F
part G pins: 8 F
part H pins: 9 F
part I pins: 10 F
part J pins: 11 F
part K pins: 12 F
part L pins: 13 F
part M pins: 14 F
part N pins: 15 F
part O pins: 16 F
part P pins: 17 F
part Q pins: 18 F
part R pins: 19 F
part S pins: 20 F
part T pins: 21 F
part U pins: 22 F
part V pins: 23 F
part W pins: 24 F
part X pins: 25 F
part Y pins: 26 F
part Z pins: 27 F
part 27 pins: 28 F
part 28 pins: 29 F
part 29 pins: 30 F
part 30 pins: 31 F
part 31 pins: 32 F
part 32 pins: 33 F
part 33 pins: 34 F
part 34 pins: 35 F
part 35 pins: 36 F
part 36 pins: 37 F
part 37 pins: G1, G2
part 38 pins: 1 F

## F50H
designator X?, comment <b>SUB-D</b>
OC_FARNELL: unknown; OC_NEWARK: unknown
footprint F50H
pins: 1, 2, 3, 4, 5, 6, 7, 8, 9, 10, 11, 12, 13, 14, 15, 16, 17, 18, 19, 20, 21, 22, 23, 24, 25, 26, 27, 28, 29, 30, 31, 32, 33, 34, 35, 36, 37, 38, 39, 40, 41, 42, 43, 44, 45, 46, 47, 48, 49, 50

## F50HP
designator X?, comment <b>SUB-D</b>
OC_FARNELL: unknown; OC_NEWARK: unknown
footprint F50HP
pins: 1, 2, 3, 4, 5, 6, 7, 8, 9, 10, 11, 12, 13, 14, 15, 16, 17, 18, 19, 20, 21, 22, 23, 24, 25, 26, 27, 28, 29, 30, 31, 32, 33, 34, 35, 36, 37, 38, 39, 40, 41, 42, 43, 44, 45, 46, 47, 48, 49, 50, G1, G2

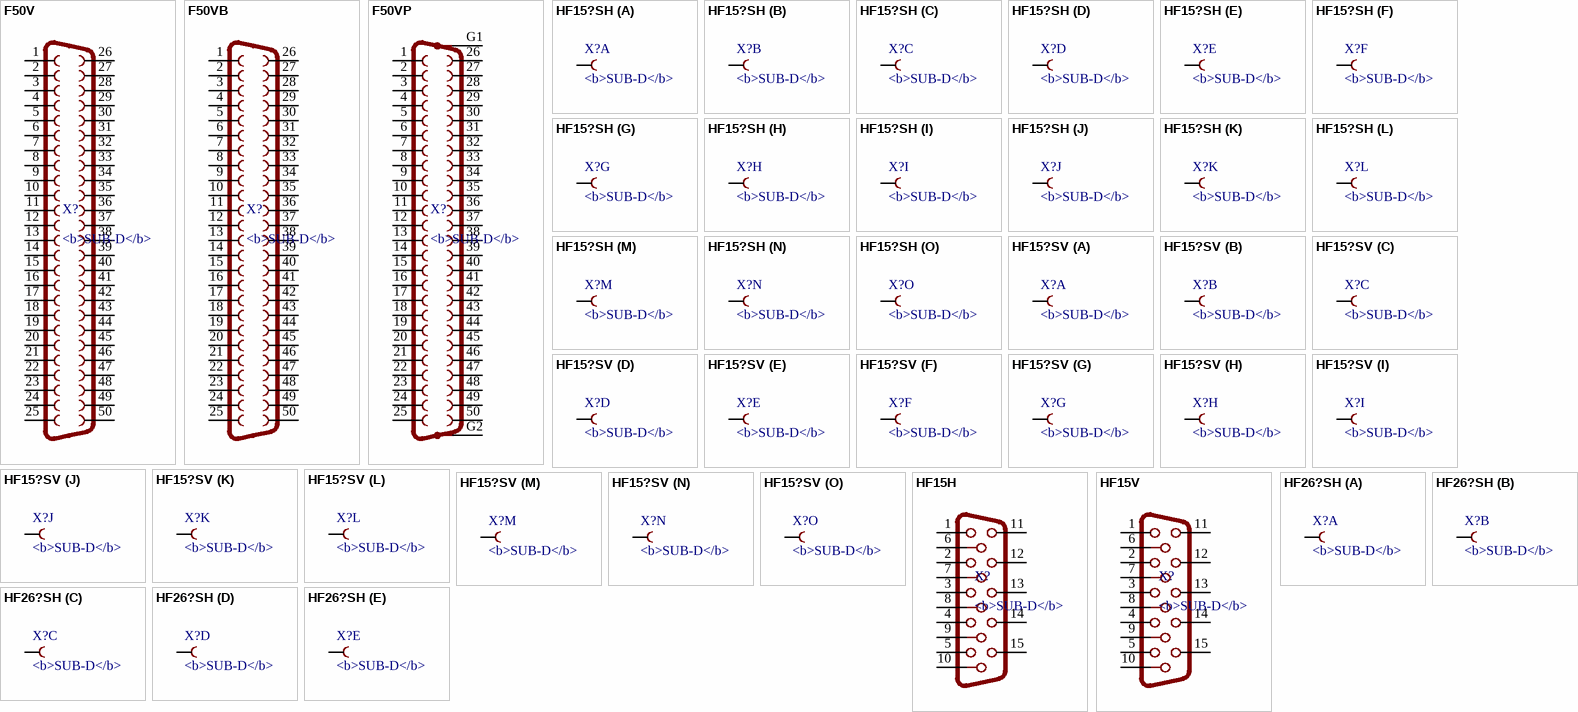
[diagram p21: symbols F50V to HF26?SH]

## F50V
designator X?, comment <b>SUB-D</b>
OC_FARNELL: unknown; OC_NEWARK: unknown
footprint F50V
pins: 1, 2, 3, 4, 5, 6, 7, 8, 9, 10, 11, 12, 13, 14, 15, 16, 17, 18, 19, 20, 21, 22, 23, 24, 25, 26, 27, 28, 29, 30, 31, 32, 33, 34, 35, 36, 37, 38, 39, 40, 41, 42, 43, 44, 45, 46, 47, 48, 49, 50

## F50VB
designator X?, comment <b>SUB-D</b>
OC_FARNELL: unknown; OC_NEWARK: unknown
footprint F50VB
pins: 1, 2, 3, 4, 5, 6, 7, 8, 9, 10, 11, 12, 13, 14, 15, 16, 17, 18, 19, 20, 21, 22, 23, 24, 25, 26, 27, 28, 29, 30, 31, 32, 33, 34, 35, 36, 37, 38, 39, 40, 41, 42, 43, 44, 45, 46, 47, 48, 49, 50

## F50VP
designator X?, comment <b>SUB-D</b>
OC_FARNELL: unknown; OC_NEWARK: unknown
footprint F50VP
pins: 1, 2, 3, 4, 5, 6, 7, 8, 9, 10, 11, 12, 13, 14, 15, 16, 17, 18, 19, 20, 21, 22, 23, 24, 25, 26, 27, 28, 29, 30, 31, 32, 33, 34, 35, 36, 37, 38, 39, 40, 41, 42, 43, 44, 45, 46, 47, 48, 49, 50, G1, G2

## HF15?SH
designator X?, comment <b>SUB-D</b>
OC_FARNELL: unknown; OC_NEWARK: unknown
footprint HDF15H
part A pins: 1 F
part B pins: 2 F
part C pins: 3 F
part D pins: 4 F
part E pins: 5 F
part F pins: 6 F
part G pins: 7 F
part H pins: 8 F
part I pins: 9 F
part J pins: 10 F
part K pins: 11 F
part L pins: 12 F
part M pins: 13 F
part N pins: 14 F
part O pins: 15 F

## HF15?SV
designator X?, comment <b>SUB-D</b>
OC_FARNELL: unknown; OC_NEWARK: unknown
footprint HDF15V
part A pins: 1 F
part B pins: 2 F
part C pins: 3 F
part D pins: 4 F
part E pins: 5 F
part F pins: 6 F
part G pins: 7 F
part H pins: 8 F
part I pins: 9 F
part J pins: 10 F
part K pins: 11 F
part L pins: 12 F
part M pins: 13 F
part N pins: 14 F
part O pins: 15 F

## HF15H
designator X?, comment <b>SUB-D</b>
OC_FARNELL: unknown; OC_NEWARK: unknown
footprint HDF15H
pins: 1, 2, 3, 4, 5, 6, 7, 8, 9, 10, 11, 12, 13, 14, 15

## HF15V
designator X?, comment <b>SUB-D</b>
OC_FARNELL: unknown; OC_NEWARK: unknown
footprint HDF15V
pins: 1, 2, 3, 4, 5, 6, 7, 8, 9, 10, 11, 12, 13, 14, 15

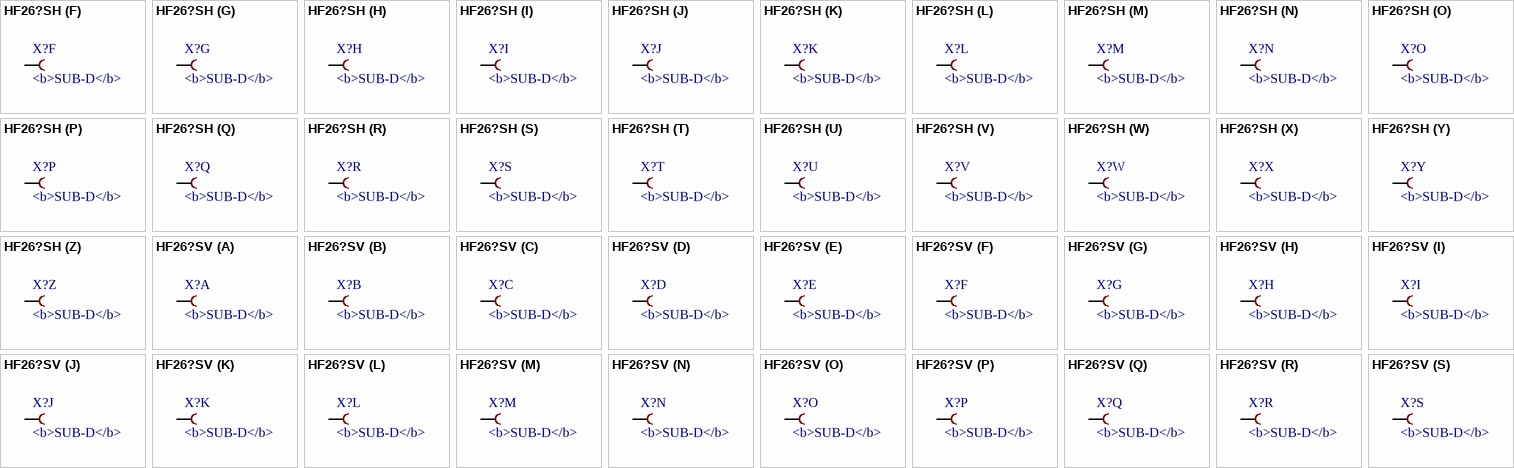
[diagram p22: symbols HF26?SH to HF26?SV]

## HF26?SH
designator X?, comment <b>SUB-D</b>
OC_FARNELL: unknown; OC_NEWARK: unknown
footprint HDF26H
part A pins: 1 F
part B pins: 2 F
part C pins: 3 F
part D pins: 4 F
part E pins: 5 F
part F pins: 6 F
part G pins: 7 F
part H pins: 8 F
part I pins: 9 F
part J pins: 10 F
part K pins: 11 F
part L pins: 12 F
part M pins: 13 F
part N pins: 14 F
part O pins: 15 F
part P pins: 16 F
part Q pins: 17 F
part R pins: 18 F
part S pins: 19 F
part T pins: 20 F
part U pins: 21 F
part V pins: 22 F
part W pins: 23 F
part X pins: 24 F
part Y pins: 25 F
part Z pins: 26 F